# EAGLE library part MTK3339 (library HyTechDevices - Copy)
MTK3339 66 channel, 10 Hz GPS breakout board Adafruit Link <https://www.adafruit.com/product/746>
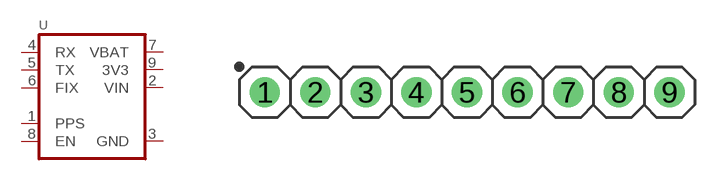
[diagram p29: symbol with the pads of 1X09; footprint 1X09]

Designator prefix -

## MTK3339  [1X09]
1  PPS  out
2  VIN  pwr
3  GND  pwr
4  RX  in
5  TX  out
6  FIX  out
7  VBAT  pwr
8  EN  in
9  3V3  pwr

## Footprint 1X09 (pad centres in mm)
0.1" Pitch Pin Header
drill 1.016: 1 -10.16,0; 2 -7.62,0; 3 -5.08,0; 4 -2.54,0; 5 0,0; 6 2.54,0; 7 5.08,0; 8 7.62,0; 9 10.16,0